# Altium footprint library BC8SATEV1.01.PcbLib: 63 footprints (part 2 of 4)
Each footprint in its own frame and in the unit in brackets; x right, y up, seen from the top. Pads: shape width x height; smd on the part's side, far side on the other; paste and mask are expansions set on the pad; w line width, h text height; cw(c..) or ccw(c..) is an arc to the next point about the centre after c.
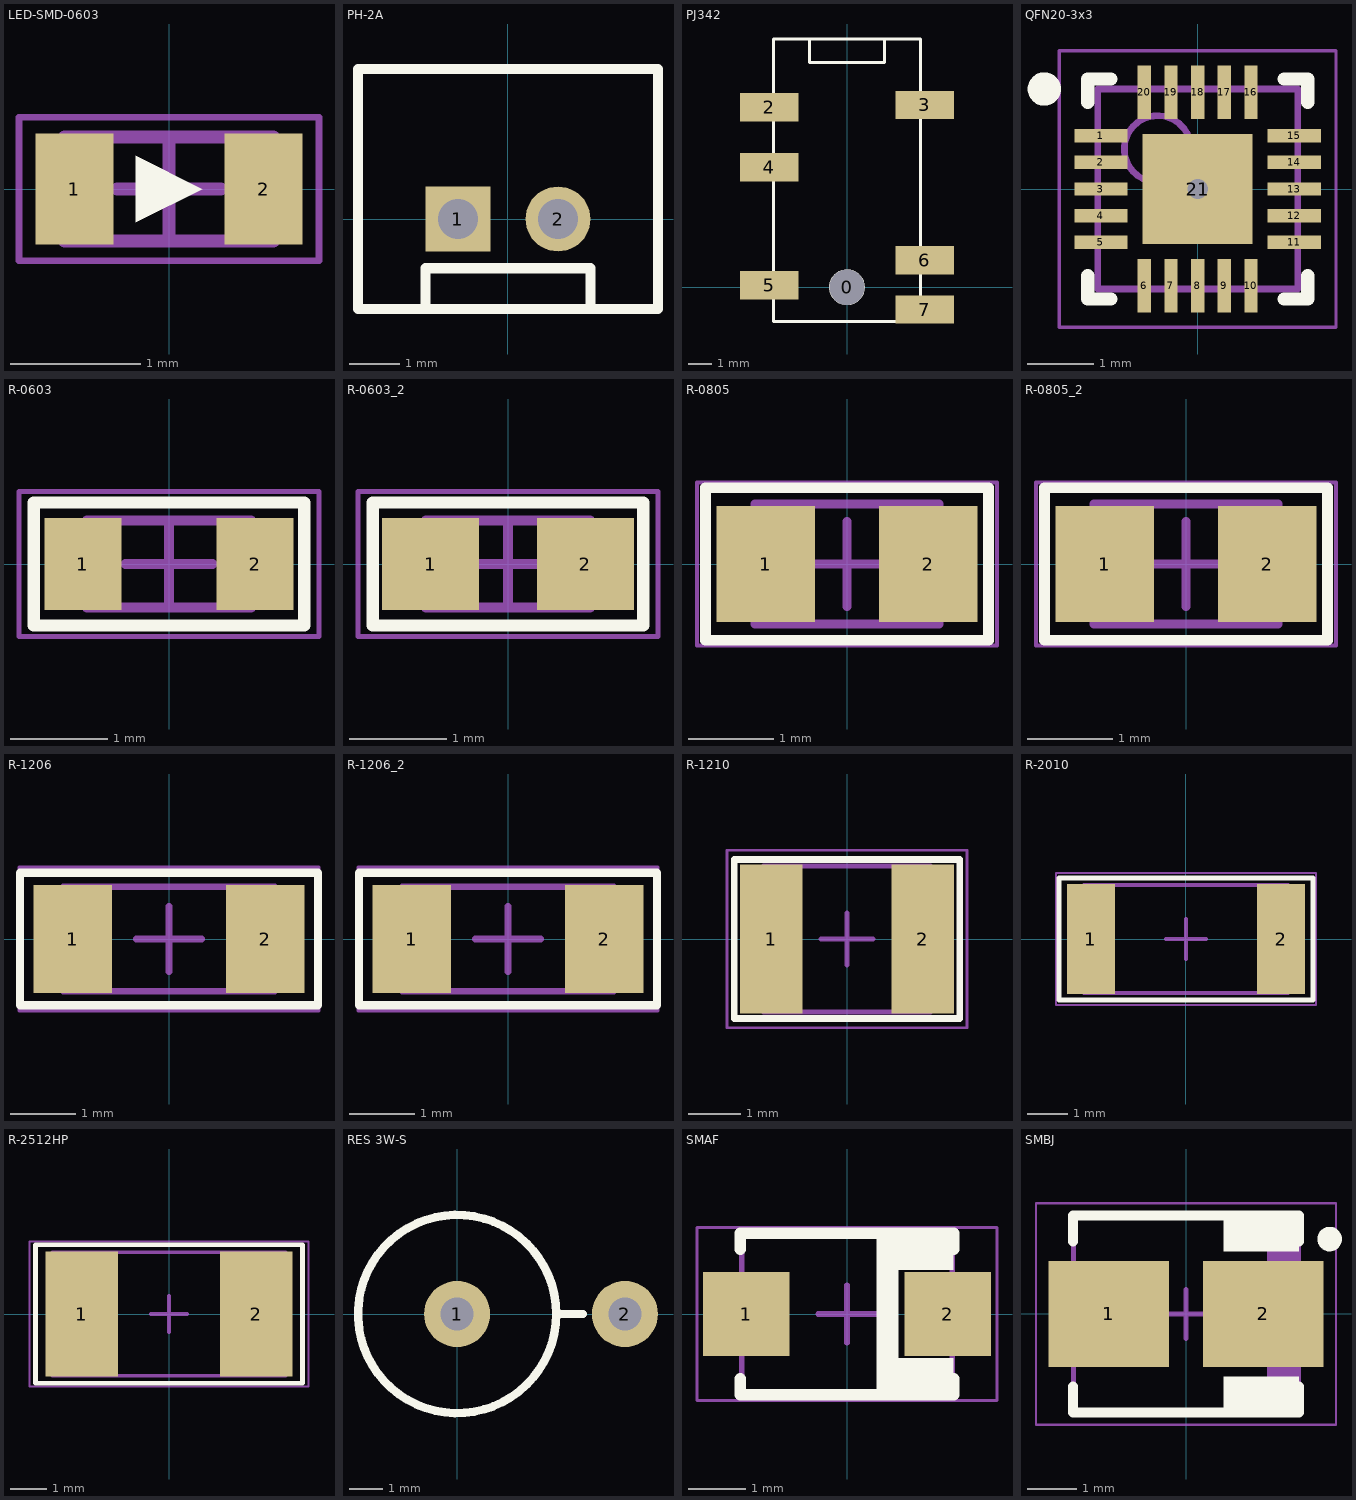
[diagram p1: the footprints below, top view; thin cyan lines are the x and y axes]

## LED-SMD-0603 [mm] "Chip LED, 2-Leads, Body 1.60x0.80mm, IPC High Density"
height 0.35
pads (2):
  rect 0.6x0.85 smd: 1(-0.725,0) 2(0.725,0)
Top Overlay:
  region: -0.254,0.254 -0.254,-0.254 0.254,0
Mechanical 13:
  lines w0.1: -0.8,-0.4 -0.8,0.4 0.8,0.4 0.8,-0.4 -0.8,-0.4
Mechanical 15:
  lines w0.05: -1.15,-0.55 -1.15,0.55 1.15,0.55 1.15,-0.55 -1.15,-0.55
  lines w0.1: -0.4,0 0.4,0 ; 0,-0.4 0,0.4
3D body: height 0.35, standoff 0, extent -0.5,-0.4 0.5,0.4
3D body: height 0.35, standoff 0, extent -0.8,-0.4 -0.5,0.4
3D body: height 0.35, standoff 0, extent 0.5,-0.4 0.8,0.4

## PH-2A [mm]
height 6
pads (2):
  rect 1.3x1.3 hole 0.8: 1(-1,0)
  round 1.3 hole 0.8: 2(1,0)
Top Overlay:
  lines w0.203: -1.651,-1.8 -1.651,-0.984 1.651,-0.984 1.651,-1.8 ; -3,-1.8 -3,3 3,3 3,-1.8 -3,-1.8
3D body: height 6, standoff 0, extent -3,-1.8 3,3

## PJ342 [mm]
pads (7):
  round 1.4 hole 1.5 unplated: 0(0,0)
  rect 2.5x1.2 smd: 2(-3.302,7.65) 3(3.302,7.75) 4(-3.302,5.1) 5(-3.302,0.08) 6(3.302,1.15) 7(3.302,-0.95)
Top Overlay:
  circle w0.127: c0,0 r0.7
  circle w0.127: c0,0 r0.6
  lines w0.127: -3.125,-0.42 -4.175,-0.42 -3.675,0.08 -4.175,0.58 -3.125,0.58 ; -3.125,4.6 -4.175,4.6 -3.675,5.1 -4.175,5.6 -3.125,5.6 ; -3.125,7.15 -4.175,7.15 -3.675,7.65 -4.175,8.15 -3.125,8.15 ; -3.125,10.45 -3.125,10.55 ; -1.6,10.55 -1.6,9.55 1.6,9.55 1.6,10.55 ; 3.125,-1.45 3.125,10.55 ; 3.125,-0.45 4.175,-0.45 3.675,-0.95 4.175,-1.45 -3.125,-1.45 -3.125,10.55 ; 3.125,0.65 4.175,0.65 3.675,1.15 4.175,1.65 3.125,1.65 ; 3.125,7.25 4.175,7.25 3.675,7.75 4.175,8.25 3.125,8.25 ; 3.125,10.45 3.125,10.55 ; -3.125,10.55 3.125,10.55 ; -3.125,10.55 3.125,10.55
3D body: height 4, standoff 0, extent -3.125,-1.45 3.125,10.55

## QFN20-3x3 [mm] "QFN, 20-Leads, Body 3.00x3.00mm, Pitch 0.40mm, Thermal Pad 1.65x1.65mm, IPC Medium Density"
height 0.8
pads (21):
  rect 0.8x0.2 smd: 1(-1.45,0.8) 2(-1.45,0.4) 3(-1.45,0) 4(-1.45,-0.4) 5(-1.45,-0.8) 11(1.45,-0.8) 12(1.45,-0.4) 13(1.45,0) 14(1.45,0.4) 15(1.45,0.8)
  rect 0.2x0.8 smd: 6(-0.8,-1.45) 7(-0.4,-1.45) 8(0,-1.45) 9(0.4,-1.45) 10(0.8,-1.45) 16(0.8,1.45) 17(0.4,1.45) 18(0,1.45) 19(-0.4,1.45) 20(-0.8,1.45)
  rect 1.65x1.65 smd paste-2.54 mask-2.54: 21(0,0)
via 0,0 diameter 0.61 hole 0.305
Top Overlay:
  circle w0.25: c-2.3,1.5 r0.125
  lines w0.2: -1.65,-1.3 -1.65,-1.65 -1.3,-1.65 ; -1.65,1.3 -1.65,1.65 -1.3,1.65 ; 1.3,-1.65 1.65,-1.65 1.65,-1.3 ; 1.3,1.65 1.65,1.65 1.65,1.3
Top Paste:
  rectangle: -0.635,0.254 -0.254,0.635
  rectangle: -0.635,-0.635 -0.254,-0.254
  rectangle: 0.254,-0.635 0.635,-0.254
  rectangle: 0.254,0.254 0.635,0.635
Top Solder:
  rectangle: -0.635,0.254 -0.254,0.635
  region: -0.254,-0.635 -0.254,-0.254 -0.635,-0.254 -0.635,-0.635
  region: 0.635,-0.254 0.254,-0.254 0.254,-0.635 0.635,-0.635
  region: 0.254,0.635 0.254,0.254 0.635,0.254 0.635,0.635
Mechanical 13:
  circle w0.1: c-0.6,0.6 r0.5
  lines w0.1: -1.5,-1.5 1.5,-1.5 1.5,1.5 -1.5,1.5 -1.5,-1.5
Mechanical 15:
  lines w0.05: -2.075,-2.075 2.075,-2.075 2.075,2.075 -2.075,2.075 -2.075,-2.075
  lines w0.1: -0.5,0 0.5,0 ; 0,-0.5 0,0.5
3D body "QFN20-3x3.step": height 0.8, standoff 0, extent -1.51,-1.51 1.51,1.51

## R-0603 [mm] "Chip Resistor, 2-Leads, Body 1.60x0.80mm, IPC Medium Density"
height 0.55
pads (2):
  rect 0.8x0.95 smd: 1(-0.889,0) 2(0.889,0)
Top Overlay:
  lines w0.127: -1.397,-0.635 -1.397,0.635 1.397,0.635 1.397,-0.635 -1.397,-0.635
Mechanical 13:
  lines w0.1: -0.85,-0.45 -0.85,0.45 0.85,0.45 0.85,-0.45 -0.85,-0.45
Mechanical 15:
  lines w0.05: -1.55,-0.75 -1.55,0.75 1.55,0.75 1.55,-0.75 -1.55,-0.75
  lines w0.1: -0.45,0 0.45,0 ; 0,-0.45 0,0.45
3D body: height 0.55, standoff 0, extent -0.55,-0.45 0.55,0.45
3D body: height 0.55, standoff 0, extent -0.85,-0.45 -0.55,0.45
3D body: height 0.55, standoff 0, extent 0.55,-0.45 0.85,0.45

## R-0603_2 [mm]
pads (2):
  rect 1x0.95 smd: 1(-0.8,0) 2(0.8,0)
Top Overlay:
  lines w0.127: -1.397,-0.635 1.397,-0.635 1.397,0.635 -1.397,0.635 -1.397,-0.635
Mechanical 13:
  lines w0.1: -0.85,-0.45 0.85,-0.45 0.85,0.45 -0.85,0.45 -0.85,-0.45
Mechanical 15:
  lines w0.05: -1.55,-0.75 1.55,-0.75 1.55,0.75 -1.55,0.75 -1.55,-0.75
  lines w0.1: -0.45,0 0.45,0 ; 0,-0.45 0,0.45
3D body: height 0.55, standoff 0, extent 0.55,-0.45 0.85,0.45
3D body: height 0.55, standoff 0, extent -0.85,-0.45 -0.55,0.45
3D body: height 0.55, standoff 0, extent -0.55,-0.45 0.55,0.45

## R-0805 [mm] "Chip Resistor, 2-Leads, Body 2.00x1.27mm, IPC Medium Density"
height 0.65
pads (2):
  rect 1.15x1.35 smd: 1(-0.95,0) 2(0.95,0)
Top Overlay:
  lines w0.127: -1.651,-0.889 -1.651,0.889 1.651,0.889 1.651,-0.889 -1.651,-0.889
Mechanical 13:
  lines w0.1: -1.075,-0.7 -1.075,0.7 1.075,0.7 1.075,-0.7 -1.075,-0.7
Mechanical 15:
  lines w0.05: -1.75,-0.95 -1.75,0.95 1.75,0.95 1.75,-0.95 -1.75,-0.95
  lines w0.1: -0.5,0 0.5,0 ; 0,-0.5 0,0.5
3D body: height 0.65, standoff 0, extent -0.675,-0.7 0.675,0.7
3D body: height 0.65, standoff 0, extent -1.075,-0.7 -0.675,0.7
3D body: height 0.65, standoff 0, extent 0.675,-0.7 1.075,0.7

## R-0805_2 [mm]
pads (2):
  rect 1.15x1.35 smd: 1(-0.95,0) 2(0.95,0)
Top Overlay:
  lines w0.127: -1.651,-0.889 1.651,-0.889 1.651,0.889 -1.651,0.889 -1.651,-0.889
Mechanical 13:
  lines w0.1: -1.075,-0.7 1.075,-0.7 1.075,0.7 -1.075,0.7 -1.075,-0.7
Mechanical 15:
  lines w0.05: -1.75,-0.95 1.75,-0.95 1.75,0.95 -1.75,0.95 -1.75,-0.95
  lines w0.1: -0.5,0 0.5,0 ; 0,-0.5 0,0.5
3D body: height 0.65, standoff 0, extent 0.675,-0.7 1.075,0.7
3D body: height 0.65, standoff 0, extent -1.075,-0.7 -0.675,0.7
3D body: height 0.65, standoff 0, extent -0.675,-0.7 0.675,0.7

## R-1206 [mm] "Chip Resistor, 2-Leads, Body 3.10x1.53mm, IPC Medium Density"
height 0.65
pads (2):
  rect 1.2x1.65 smd: 1(-1.475,0) 2(1.475,0)
Top Overlay:
  lines w0.127: -2.286,-1.016 -2.286,1.016 2.286,1.016 2.286,-1.016 -2.286,-1.016
Mechanical 13:
  lines w0.1: -1.625,-0.8 1.625,-0.8 1.625,0.8 -1.625,0.8 -1.625,-0.8
Mechanical 15:
  lines w0.05: -2.3,-1.1 2.3,-1.1 2.3,1.1 -2.3,1.1 -2.3,-1.1
  lines w0.1: -0.5,0 0.5,0 ; 0,-0.5 0,0.5
3D body: height 0.65, standoff 0, extent 1.175,-0.8 1.625,0.8
3D body: height 0.65, standoff 0, extent -1.625,-0.8 -1.175,0.8
3D body: height 0.65, standoff 0, extent -1.175,-0.8 1.175,0.8

## R-1206_2 [mm]
pads (2):
  rect 1.2x1.65 smd: 1(-1.475,0) 2(1.475,0)
Top Overlay:
  lines w0.127: -2.286,-1.016 -2.286,1.016 2.286,1.016 2.286,-1.016 -2.286,-1.016
Mechanical 13:
  lines w0.1: -1.625,-0.8 1.625,-0.8 1.625,0.8 -1.625,0.8 -1.625,-0.8
Mechanical 15:
  lines w0.05: -2.3,-1.1 2.3,-1.1 2.3,1.1 -2.3,1.1 -2.3,-1.1
  lines w0.1: -0.5,0 0.5,0 ; 0,-0.5 0,0.5
3D body: height 0.65, standoff 0, extent 1.175,-0.8 1.625,0.8
3D body: height 0.65, standoff 0, extent -1.625,-0.8 -1.175,0.8
3D body: height 0.65, standoff 0, extent -1.175,-0.8 1.175,0.8

## R-1210 [mm] "Chip Resistor, 2-Leads, Body 3.10x2.60mm, IPC Medium Density"
height 0.65
pads (2):
  rect 1.2x2.85 smd: 1(-1.45,0) 2(1.45,0)
Top Overlay:
  lines w0.127: -2.159,-1.524 -2.159,1.524 2.159,1.524 2.159,-1.524 -2.159,-1.524
Mechanical 13:
  lines w0.1: -1.6,-1.4 -1.6,1.4 1.6,1.4 1.6,-1.4 -1.6,-1.4
Mechanical 15:
  lines w0.05: -2.3,-1.7 -2.3,1.7 2.3,1.7 2.3,-1.7 -2.3,-1.7
  lines w0.1: -0.5,0 0.5,0 ; 0,-0.5 0,0.5
3D body: height 0.65, standoff 0, extent -1.1,-1.4 1.1,1.4
3D body: height 0.65, standoff 0, extent -1.6,-1.4 -1.1,1.4
3D body: height 0.65, standoff 0, extent 1.1,-1.4 1.6,1.4

## R-2010 [mm] "Chip Resistor, 2-Leads, Body 5.00x2.50mm, IPC Medium Density"
height 0.65
pads (2):
  rect 1.2x2.75 smd: 1(-2.375,0) 2(2.375,0)
Top Overlay:
  lines w0.127: -3.175,-1.524 -3.175,1.524 3.175,1.524 3.175,-1.524 -3.175,-1.524
Mechanical 13:
  lines w0.1: -2.55,-1.35 2.55,-1.35 2.55,1.35 -2.55,1.35 -2.55,-1.35
Mechanical 15:
  lines w0.05: -3.25,-1.65 3.25,-1.65 3.25,1.65 -3.25,1.65 -3.25,-1.65
  lines w0.1: -0.5,0 0.5,0 ; 0,-0.5 0,0.5
3D body: height 0.65, standoff 0, extent 2.05,-1.35 2.55,1.35
3D body: height 0.65, standoff 0, extent -2.55,-1.35 -2.05,1.35
3D body: height 0.65, standoff 0, extent -2.05,-1.35 2.05,1.35

## R-2512HP [mm] "Chip Resistor, 2-Leads, Body 6.35x3.20mm, IPC Medium Density"
height 0.65
pads (2):
  rect 2x3.45 smd: 1(-2.413,0) 2(2.413,0)
Top Overlay:
  lines w0.127: -3.683,-1.905 -3.683,1.905 3.683,1.905 3.683,-1.905 -3.683,-1.905
Mechanical 13:
  lines w0.1: -3.225,-1.7 -3.225,1.7 3.225,1.7 3.225,-1.7 -3.225,-1.7
Mechanical 15:
  lines w0.05: -3.85,-2 -3.85,2 3.85,2 3.85,-2 -3.85,-2
  lines w0.1: -0.5,0 0.5,0 ; 0,-0.5 0,0.5
3D body: height 0.65, standoff 0, extent -1.397,-1.7 1.397,1.7
3D body: height 0.65, standoff 0, extent -3.225,-1.7 -1.397,1.7
3D body: height 0.65, standoff 0, extent 1.397,-1.7 3.225,1.7

## RES 3W-S [mm]
pads (2):
  round 2 hole 1: 1(0,0) 2(5.08,0)
Top Overlay:
  circle w0.254: c0,0 r3
  lines w0.254: 3,0 3.81,0
3D body: height 18, standoff 0, extent -3,-3 3,3

## SMAF [mm] "SODFL, 2-Leads, Body 2.60x4.60mm, IPC High Density"
height 1.4
pads (2):
  rect 1.5x1.45 smd: 1(-1.75,0) 2(1.75,0)
Top Overlay:
  region: 1.85,1.4 0.508,1.4 0.508,0.762 1.85,0.762
  region: 0.889,0.762 0.508,0.762 0.508,-1.397 0.889,-1.397
  region: 1.85,-0.762 0.762,-0.762 0.762,-1.4 1.85,-1.4
  lines w0.2: -1.85,-1.125 -1.85,-1.4 1.85,-1.4 1.85,-1.125 ; -1.85,1.125 -1.85,1.4 1.85,1.4 1.85,1.125
Mechanical 13:
  lines w0.1: -1.825,-1.4 1.825,-1.4 1.825,1.4 -1.825,1.4 -1.825,-1.4
Mechanical 15:
  lines w0.05: -2.6,-1.5 2.6,-1.5 2.6,1.5 -2.6,1.5 -2.6,-1.5
  lines w0.1: -0.5,0 0.5,0 ; 0,-0.5 0,0.5
3D body "SMAF.step": height 1.4, standoff 0, extent -2.3,-1.4 2.3,1.4

## SMBJ [mm] "Molded Diode, 2-Leads, Body 4.31x3.62mm, IPC Medium Density"
height 2.44
pads (2):
  rect 2.45x2.15 smd: 1(-1.575,0) 2(1.575,0)
Top Overlay:
  circle w0.25: c2.921,1.524 r0.125
  region: 2.3,-1.27 0.762,-1.27 0.762,-2 2.3,-2
  region: 2.3,2 0.762,2 0.762,1.27 2.3,1.27
  lines w0.2: -2.3,-1.475 -2.3,-2 2.3,-2 2.3,-1.475 ; -2.3,1.475 -2.3,2 2.3,2 2.3,1.475
Mechanical 13:
  rectangle: 1.651,-1.94 2.266,2
  lines w0.1: -2.285,-1.97 2.285,-1.97 2.285,1.97 -2.285,1.97 -2.285,-1.97
Mechanical 15:
  lines w0.05: -3.05,-2.25 3.05,-2.25 3.05,2.25 -3.05,2.25 -3.05,-2.25
  lines w0.1: -0.5,0 0.5,0 ; 0,-0.5 0,0.5
3D body: height 2.44, standoff 0, extent -2.285,-1.97 2.285,1.97